# Altium schematic symbol library Diode_Array.SchLib: 1 symbol
Pins are listed as number, name and electrical type; pins without a type are passive.

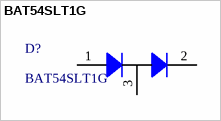
[diagram p0: symbol BAT54SLT1G]

## BAT54SLT1G
designator D?
Diode Array 1 Pair Series Connection 30V 200mA Surface Mount SOT-23; Manufacturer: onsemi; Configuration: Dual; Forward Voltage: 800 mV @ 100 mA; Max Surge Current: 600 mA; Reverse Current: 2uA@25V; Type: Schottky Diodes; ComponentLink1Description: Datasheet; ComponentLink1URL: https://www.lcsc.com/datasheet/C19726.pdf; Forward Current: 200 mA; LCSC Part #: C19726; Manufacturer Part Number: BAT54SLT1G; Mount: SMD/SMT; Operating Temperature Max: + 150 C; Operating Temperature Min: - 55 C; Package / Case: SOT-23-3; Packaging: Tape and Reel; Peak Reverse Voltage: 30 V; Supplier 1: Mouser; Supplier 1 Part Number: 863-BAT54SLT1G; Supplier 1 URL: https://www.mouser.com/ProductDetail/onsemi/BAT54SLT1G?qs=vLkC5FC1VN9oCh8qaBIZiQ%3D%3D; Supplier 2: Digi-Key; Supplier 2 Part Number: BAT54SLT1GOSTR-ND; Supplier 2 URL: https://www.digikey.com/en/products/detail/onsemi/bat54slt1g/918317; Supplier 3: thegioiic; Supplier 3 Part Number: N/A; Supplier 3 URL: N/A; Value: BAT54SLT1G
footprint BAT54SLT1G (SOT23, 3-Leads, Body 2.92x2.37mm, Pitch 0.95mm, IPC Medium Density)
pins: 1, 2, 3